# Altium footprint library DB & VGA Connector.PcbLib: 5 footprints
Each footprint in its own frame and in the unit in brackets; x right, y up, seen from the top. Pads: shape width x height; smd on the part's side, far side on the other; paste and mask are expansions set on the pad; w line width, h text height; cw(c..) or ccw(c..) is an arc to the next point about the centre after c.
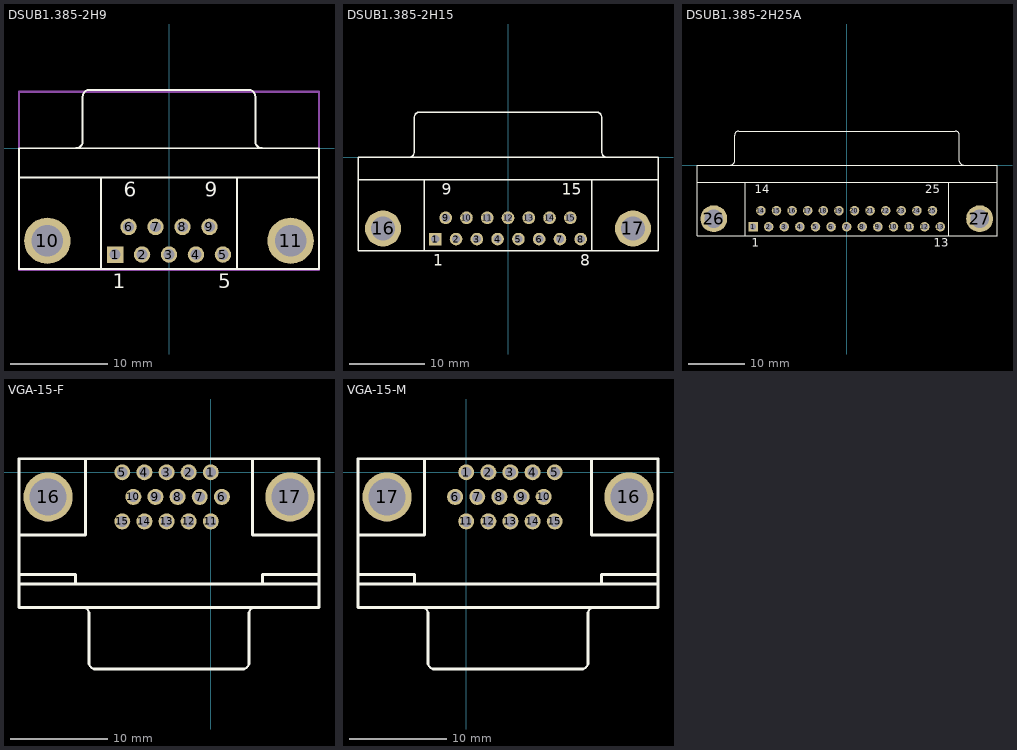
[diagram p0: the footprints below, top view; thin cyan lines are the x and y axes]

## DSUB1.385-2H9 [mm] "Connector; D Subminiature; 9 Position; Right Angle; Pitch 1.385 mm"
height 12.75
pads (11):
  rect 1.69x1.69 hole 1.09: 1(-5.54,-10.92)
  round 1.69 hole 1.09: 2(-2.77,-10.92) 3(0,-10.92) 4(2.77,-10.92) 5(5.54,-10.92) 6(-4.155,-8.08) 7(-1.385,-8.08) 8(1.385,-8.08) 9(4.155,-8.08)
  round 4.76 hole 3.26: 10(-12.495,-9.5) 11(12.495,-9.5)
Top Overlay:
  lines w0.2: -15.4,-3 15.4,-3 ; -9.56,0.005 ccw(c-9.56,0.7) -8.865,0.7 -8.865,5.3 ; -8.86,5.305 cw(c-8.165,5.305) -8.165,6 8.165,6 cw(c8.165,5.305) 8.86,5.305 ; -7,-12.4 -7,-3 ; 7,-12.4 7,-3 ; 8.865,5.3 8.865,0.7 ccw(c9.56,0.7) 9.56,0.005 ; -15.4,-12.4 -15.4,0 15.4,0 15.4,-12.4 -15.4,-12.4
  text "1" at -5.79,-14.375 h1.5
  text "5" at 5.04,-14.375 h1.5
  text "9" at 3.655,-4.975 h1.5
  text "6" at -4.655,-4.975 h1.5
Mechanical 1:
  lines w0.254: -15.405,-12.5 15.405,-12.5 15.405,5.8 -15.405,5.8 -15.405,-12.5
3D body "User Library-DB9-Usa.STEP": height 12.62, standoff -4.25, extent -15.405,-12.5 15.405,5.8

## DSUB1.385-2H15 [mm] "Connector; D Subminiature; 15 Position; Right Angle; Pitch 1.385 mm"
height 12.75
pads (17):
  rect 1.69x1.69 hole 1.09: 1(-9.695,-10.92)
  round 1.69 hole 1.09: 2(-6.925,-10.92) 3(-4.155,-10.92) 4(-1.385,-10.92) 5(1.385,-10.92) 6(4.155,-10.92) 7(6.925,-10.92) 8(9.695,-10.92) 9(-8.31,-8.08) 10(-5.54,-8.08) 11(-2.77,-8.08) 12(0,-8.08) 13(2.77,-8.08) 14(5.54,-8.08) 15(8.31,-8.08)
  round 4.8 hole 3.18: 16(-16.66,-9.5) 17(16.66,-9.5)
Top Overlay:
  lines w0.2: -20,-3 20,-3 ; -13.195,0.005 ccw(c-13.195,0.7) -12.5,0.7 -12.5,5.3 ; -12.495,5.305 cw(c-11.8,5.305) -11.8,6 11.8,6 cw(c11.8,5.305) 12.495,5.305 ; -11.14,-12.5 -11.14,-3 ; 11.14,-12.5 11.14,-3 ; 12.5,5.3 12.5,0.7 ccw(c13.195,0.7) 13.195,0.005 ; -20,-12.5 20,-12.5 20,0 -20,0 -20,-12.5
  text "9" at -8.81,-4.975 h1.5
  text "15" at 7.185,-4.975 h1.5
  text "8" at 9.652,-14.475 h1.5
  text "1" at -9.945,-14.475 h1.5

## DSUB1.385-2H25A [mm] "Connector; D Subminiature; 25 Position; Right Angle; Pitch 1.385 mm"
height 12.93
pads (27):
  rect 1.69x1.69 hole 1.09: 1(-16.566,-10.92)
  round 1.69 hole 1.09: 2(-13.805,-10.92) 3(-11.044,-10.92) 4(-8.283,-10.92) 5(-5.522,-10.92) 6(-2.761,-10.92) 7(0,-10.92) 8(2.761,-10.92) 9(5.522,-10.92) 10(8.283,-10.92) 11(11.044,-10.92) 12(13.805,-10.92) 13(16.566,-10.92) 14(-15.185,-8.08) 15(-12.424,-8.08) 16(-9.663,-8.08) 17(-6.902,-8.08) 18(-4.141,-8.08) 19(-1.38,-8.08) 20(1.381,-8.08) 21(4.142,-8.08) 22(6.903,-8.08) 23(9.664,-8.08) 24(12.425,-8.08) 25(15.186,-8.08)
  round 4.76 hole 3.26: 26(-23.526,-9.5) 27(23.526,-9.5)
Top Overlay:
  lines w0.2: -26.496,-3 26.604,-3 ; -20.541,0.005 ccw(c-20.541,0.7) -19.846,0.7 -19.846,5.3 ; -19.841,5.305 cw(c-19.146,5.305) -19.146,6 19.254,6 cw(c19.254,5.305) 19.949,5.305 ; -17.946,-12.5 -17.946,-3 ; 18.054,-12.5 18.054,-3 ; 19.954,5.3 19.954,0.7 ccw(c20.649,0.7) 20.649,0.005 ; -26.496,-12.5 26.604,-12.5 26.604,0 -26.496,0 -26.496,-12.5
  text "1" at -16.816,-14.475 h1.5
  text "13" at 15.441,-14.475 h1.5
  text "14" at -16.31,-4.975 h1.5
  text "25" at 13.936,-4.975 h1.5

## VGA-15-F [mil]
pads (17):
  round 65 hole 43.31: 1(0,0) 2(-90,0) 3(-180,0) 4(-270,0) 5(-360,0) 6(45,-100) 7(-45,-100) 8(-135,-100) 9(-225,-100) 10(-315,-100) 11(0,-200) 12(-90,-200) 13(-180,-200) 14(-270,-200) 15(-360,-200)
  round 200 hole 149.61: 16(-662.01,-100) 17(322.01,-100)
Top Overlay:
  lines w8: -515,-550 cw(c-522.5,-577.5) -495,-570 ; -495,-780 ccw(c-467.5,-772.5) -475,-800 ; 135,-800 ccw(c127.5,-772.5) 155,-780 ; 155,-570 cw(c182.5,-577.5) 175,-550
  lines w12: -780,-455 440,-455 ; -780,-415 -550,-415 -550,-455 ; -780,-255 -510,-255 -510,55 ; -495,-780 -495,-570 ; -475,-800 135,-800 ; 155,-780 155,-570 ; 170,55 170,-255 440,-255 ; 175,-550 440,-550 440,-250 440,55 -180,55 -780,55 -780,-250 -780,-550 -515,-550 180,-550 ; 210,-455 210,-415 440,-415
Mechanical 1:
  circle w8: c322,-103 r62.65
  circle w8: c-662,-103 r62.65
  circle w8: c-662,-103 r92.27
  circle w8: c323,-103 r92.27

## VGA-15-M [mil]
pads (17):
  round 65 hole 43.31: 1(0,0) 2(90,0) 3(180,0) 4(270,0) 5(360,0) 6(-45,-100) 7(45,-100) 8(135,-100) 9(225,-100) 10(315,-100) 11(0,-200) 12(90,-200) 13(180,-200) 14(270,-200) 15(360,-200)
  round 200 hole 149.61: 16(662.01,-100) 17(-322.01,-100)
Top Overlay:
  lines w8: -175,-550 cw(c-182.5,-577.5) -155,-570 ; -155,-780 ccw(c-127.5,-772.5) -135,-800 ; 475,-800 ccw(c467.5,-772.5) 495,-780 ; 495,-570 cw(c522.5,-577.5) 515,-550
  lines w12: -440,-455 780,-455 ; -440,-415 -210,-415 -210,-455 ; -440,-255 -170,-255 -170,55 ; -180,-550 515,-550 780,-550 780,-250 780,55 180,55 -440,55 -440,-250 -440,-550 -175,-550 ; -155,-780 -155,-570 ; -135,-800 475,-800 ; 495,-780 495,-570 ; 510,55 510,-255 780,-255 ; 550,-455 550,-415 780,-415
Mechanical 1:
  circle w8: c-323,-103 r92.27
  circle w8: c662,-103 r92.27
  circle w8: c662,-103 r62.65
  circle w8: c-322,-103 r62.65